# Altium schematic symbol library Schottky_Diode.SchLib: 2 symbols
Pins are listed as number, name and electrical type; pins without a type are passive.

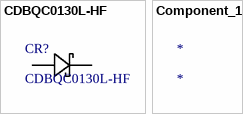
[diagram p0: symbols CDBQC0130L-HF to Component_1]

## CDBQC0130L-HF
designator CR?
No Description Available; Mfr_Name: Comchip; Type: DEV; Copyright: Copyright (C) 2022 Ultra Librarian. All rights reserved.; Manufacturer_Part_Number: CDBQC0130L-HF; Digi-Key_Part_Number_1: 641-1519-2-ND; Digi-Key_Part_Number_2: 641-1519-1-ND; Digi-Key_Part_Number_3: 641-1519-6-ND; RefDes: RefDes
footprint SDO_0402C/SOD-923F_CIP
pins: 1 11, 2 12

## Component_1
designator *